# Altium footprint library PBD-2x10.PcbLib: 1 footprints
Each footprint in its own frame and in the unit in brackets; x right, y up, seen from the top. Pads: shape width x height; smd on the part's side, far side on the other; paste and mask are expansions set on the pad; w line width, h text height; cw(c..) or ccw(c..) is an arc to the next point about the centre after c.
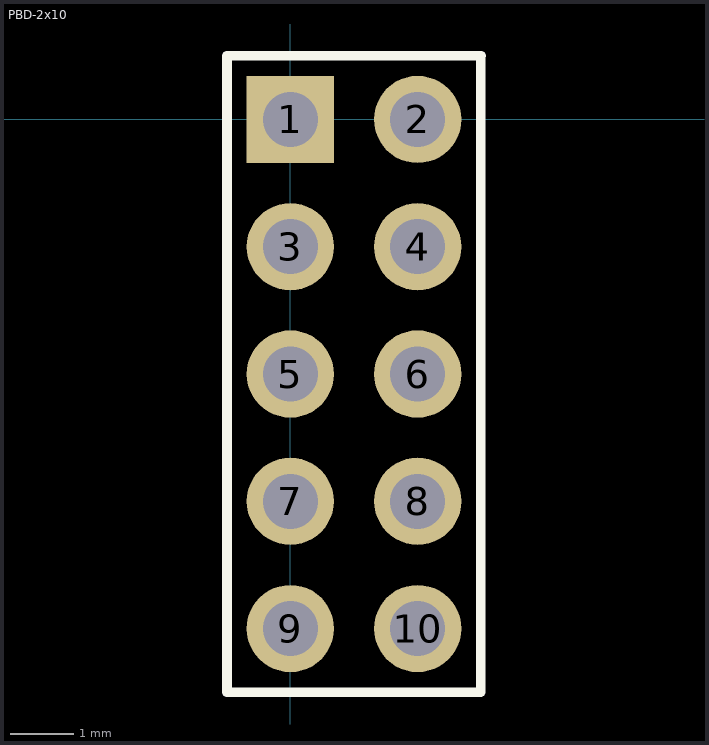
[diagram p0: the footprint, top view; thin cyan lines are the x and y axes]

## PBD-2x10 [mil]
pads (10):
  rect 54x54 hole 34: 1(0,0)
  round 54 hole 34: 2(78.74,0) 3(0,-78.74) 4(78.74,-78.74) 5(0,-157.48) 6(78.74,-157.48) 7(0,-236.22) 8(78.74,-236.22) 9(0,-314.96) 10(78.74,-314.96)
Top Overlay:
  lines w5.91: 117.44,-354.33 -39.21,-354.33 -39.21,39.21 -39.37,39.37 118.11,39.37 117.83,39.09 117.83,-354.33
3D body "PBD2-10.STEP": height 177.17, standoff -100, extent -39.37,-354.33 118.11,39.37